# EAGLE library part BPS-2288 (library yb-library)
Push Switch BPS-2288
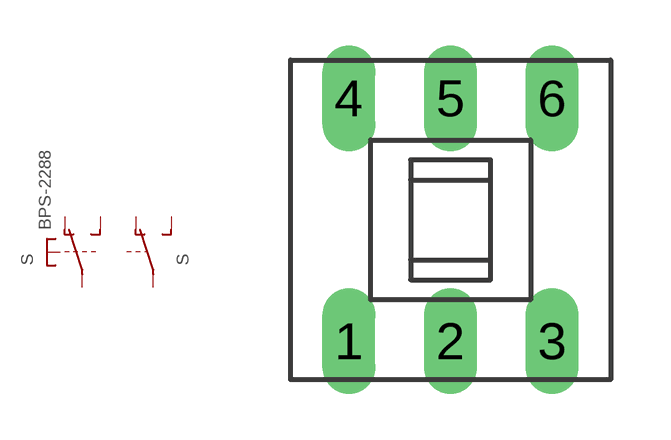
[diagram p4: symbol with the pads of BPS-2288; footprint BPS-2288]

Designator prefix S; gates 1=TSU- 2=U-2

## BPS-2288  [BPS-2288]
1  1:O  pas
2  1:S  pas
3  1:P  pas
4  2:P  pas
5  2:S  pas
6  2:O  pas

## Footprint BPS-2288 (pad centres in mm)
Push Switch BPS-2288
drill 0.813 long: 1 -2.54,-3.04; 2 0,-3.04; 3 2.54,-3.04; 4 -2.54,3.04; 5 0,3.04; 6 2.54,3.04